# Altium footprint library projectThermal.PcbLib: 41 footprints (part 3 of 3)
Each footprint in its own frame and in the unit in brackets; x right, y up, seen from the top. Pads: shape width x height; smd on the part's side, far side on the other; paste and mask are expansions set on the pad; w line width, h text height; cw(c..) or ccw(c..) is an arc to the next point about the centre after c.
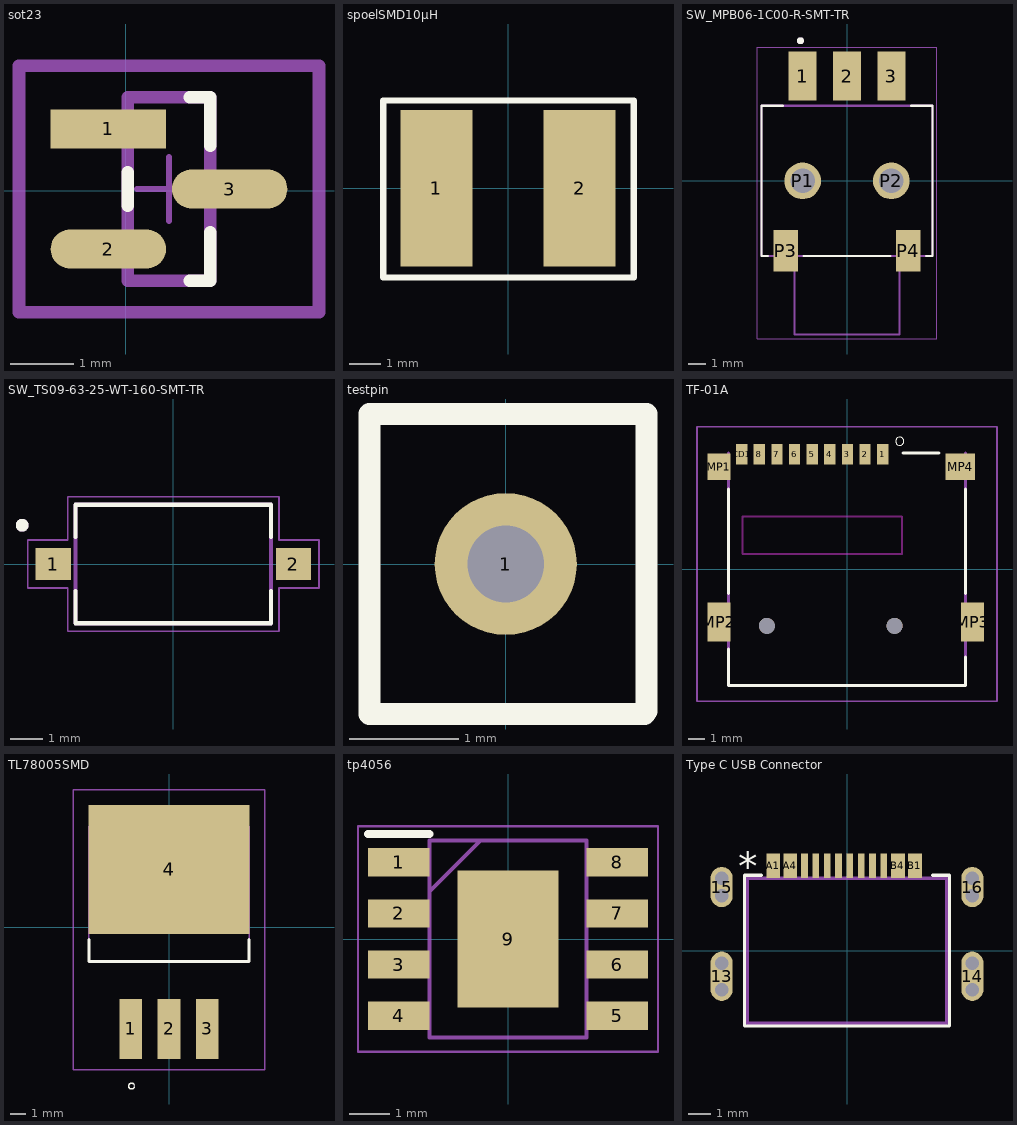
[diagram p2: the footprints below, top view; thin cyan lines are the x and y axes]

## sot23 [mil]
pads (3):
  rect 71.82x24.33 smd paste+0 mask+0: 1(-10.8,38.4)
  rrect100% 71.82x24.33 smd paste+0 mask+0: 2(-10.8,-36.4) 3(64.8,1)
Top Overlay:
  lines w7.87: 1.41,-9.47 1.41,11.47 ; 39.87,-56.09 52.59,-56.09 52.59,-25.93 ; 39.87,58.09 52.59,58.09 52.59,27.93
Top 3D Body:
  lines w7.87: 1.41,-56.09 52.59,-56.09 52.59,58.09 1.41,58.09 1.41,-56.09
Board:
  lines w7.87: -66.4,-75.77 120.4,-75.77 120.4,77.77 -66.4,77.77 -66.4,-75.77
Top Assembly:
  lines w7.87: -66.4,-75.77 120.4,-75.77 120.4,77.77 -66.4,77.77
Top Component Center:
  lines w3.94: 7.32,1 46.69,1 ; 27,-18.68 27,20.68
3D body "IC_ON_Semiconductor_NUD3112LT1G_eec.STEP": height 10, standoff 0, extent -66.4,-75.77 120.4,77.77

## spoelSMD10µH [mm]
pads (2):
  rect 2.3x5 smd: 1(-2.286,0) 2(2.286,0)
Top Overlay:
  lines w0.2: -3.977,2.794 -3.977,1.523 -3.977,-2.845 4.013,-2.845 4.013,2.794 ; -3.977,2.805 -1.979,2.805 2.016,2.805 4.013,2.805

## SW_MPB06-1C00-R-SMT-TR [mm]
height 5.9
pads (7):
  rect 1.6x2.8 smd: 1(-2.54,6) 2(0,6) 3(2.54,6)
  round 2.1 hole 1.4: P1(-2.54,0) P2(2.54,0)
  rect 1.4x2.4 smd: P3(-3.5,-4) P4(3.5,-4)
Top Overlay:
  circle w0.2: c-2.667,8.019 r0.1
  lines w0.127: -4.52,-4.3 -4.9,-4.3 -4.9,4.3 -3.66,4.3 ; -2.48,-4.3 2.48,-4.3 ; 3.66,4.3 4.9,4.3 4.9,-4.3 4.52,-4.3
Mechanical 13:
  circle w0.2: c-2.667,8.019 r0.1
  lines w0.127: -3,-4.3 -3,-8.8 3,-8.8 3,-4.3 ; -3,-4.3 3,-4.3 ; -3,-4.3 -4.9,-4.3 -4.9,4.3 4.9,4.3 4.9,-4.3 3,-4.3
Mechanical 15:
  lines w0.05: -5.15,-9.05 5.15,-9.05 5.15,7.65 -5.15,7.65 -5.15,-9.05
3D body "step_temp.STEP": height 20.51, standoff 13.31, extent -4.826,-8.577 4.974,7.053

## SW_TS09-63-25-WT-160-SMT-TR [mm]
height 2.5
pads (2):
  rect 1.1x1 smd: 1(-3.75,0) 2(3.75,0)
Top Overlay:
  circle w0.2: c-4.72,1.21 r0.1
  lines w0.127: -3.05,-0.85 -3.05,-1.85 3.05,-1.85 3.05,-0.85 ; -3.05,0.85 -3.05,1.85 3.05,1.85 3.05,0.85
Mechanical 13:
  circle w0.2: c-4.72,1.21 r0.1
  lines w0.127: -3.05,-1.85 3.05,-1.85 3.05,1.85 -3.05,1.85 -3.05,-1.85
Mechanical 15:
  lines w0.05: -4.55,-0.75 -4.55,0.75 -3.3,0.75 -3.3,2.1 3.3,2.1 3.3,0.75 4.55,0.75 4.55,-0.75 3.3,-0.75 3.3,-2.1 -3.3,-2.1 -3.3,-0.75 -4.55,-0.75
3D body "step_temp.STEP": height 2.5, standoff -0.05, extent -4.05,-1.85 4.05,1.85

## testpin [mm]
pads (1):
  round 1.3 hole 0.7: 1(0,0)
Top Overlay:
  lines w0.2: 1.27,-1.372 -1.245,-1.372 -1.245,1.372 1.286,1.372 1.286,0.025 1.286,-1.346

## TF-01A [mm]
pads (15):
  rect 0.7x1.3 smd: 1(2.23,7.174) 2(1.13,7.174) 3(0.03,7.174) 4(-1.07,7.174) 5(-2.17,7.174) 6(-3.27,7.174) 7(-4.37,7.174) 8(-5.47,7.174) CD1(-6.57,7.174)
  rect 1.448x1.651 smd: MP1(-7.989,6.4)
  rect 1.448x2.438 smd: MP2(-7.989,-3.3) MP3(7.836,-3.3)
  rect 1.854x1.651 smd: MP4(7.061,6.4)
  round 1 hole 1 unplated: ""(-5.004,-3.531) ""(2.972,-3.531)
Top Overlay:
  circle w0: c3.296,7.984 r0.254
  lines w0.203: -7.4,-5 -7.399,-7.25 7.399,-7.263 7.4,-5.5 ; -7.4,-1.5 -7.4,5 ; 3.5,7.25 5.738,7.25 ; 7.4,-1.5 7.4,5
Keep-Out Layer:
  lines w0.127: -6.528,0.94 3.429,0.94 3.429,3.302 -6.528,3.302 -6.528,0.94
Mechanical 13:
  lines w0.1: -9.36,-8.25 9.36,-8.25 9.36,8.9 -9.36,8.9 -9.36,-8.25
  lines w0.2: -7.4,7.25 -7.4,-7.25 7.4,-7.25 7.4,7.25

## TL78005SMD [mm]
pads (4):
  rect 1.5x4 smd: 1(-2.54,-6.745) 2(0,-6.745) 3(2.54,-6.745)
  rect 10.7x8.6 smd: 4(0,3.855)
Top Overlay:
  lines w0.1: -2.302,-10.591 cw(c-2.489,-10.541) -2.302,-10.491
  lines w0.2: -5.33,-0.8 -5.33,-2.27 5.33,-2.27 5.33,-0.8
Mechanical 13:
  lines w0.1: -5.33,-2.27 -5.33,6.745 5.33,6.745 5.33,-2.27 -5.33,-2.27
Mechanical 15:
  lines w0.1: -6.35,-9.445 -6.35,9.155 6.35,9.155 6.35,-9.445 -6.35,-9.445

## tp4056 [mm]
pads (9):
  rect 1.525x0.7 smd: 1(-2.712,1.905) 2(-2.712,0.635) 3(-2.712,-0.635) 4(-2.712,-1.905) 5(2.712,-1.905) 6(2.712,-0.635) 7(2.712,0.635) 8(2.712,1.905)
  rect 2.513x3.402 smd: 9(0,0)
Top Overlay:
  lines w0.2: -3.475,2.605 -1.95,2.605
Mechanical 13:
  lines w0.1: -1.95,1.18 -0.68,2.45 ; -1.95,-2.45 1.95,-2.45 1.95,2.45 -1.95,2.45 -1.95,-2.45
Mechanical 15:
  lines w0.05: -3.725,-2.8 3.725,-2.8 3.725,2.8 -3.725,2.8 -3.725,-2.8
3D body "TP4056.stp": height 1.75, standoff 0, extent -3,-2.45 3,2.45

## Type C USB Connector [mil]
pads (24):
  oval 39x87 smd: 13(-221.26,-45.23) 14(221.26,-45.23)
  oval 39x71 smd: 15(-221.26,112.25) 16(221.26,112.25)
  rect 24x43 smd: A1(-130,150) A4(-100,150) B1(120,150) B4(90,150)
  rect 12x43 smd: A5(-55,150) A6(-15,150) A7(5,150) A8(45,150) B5(65,150) B6(25,150) B7(-35,150) B8(-75,150)
  round 24 hole 24 unplated: ""(-221,-69) ""(-221,-22) ""(-221,97) ""(-221,128) ""(221,-69) ""(221,-22) ""(221,97) ""(221,128)
Top Overlay:
  lines w6: -151,133 -181,133 -181,-133 181,-133 181,133 151,133
  text "*" at -192,124 h50
Mechanical 1:
  lines w24: -221,-69 -221,-22 ; -221,97 -221,128 ; 221,-69 221,-22 ; 221,97 221,128
Mechanical 13:
  lines w6: -176,-128 -176,128 176,128 176,-128 -176,-128
  text "*" at -192,124 h50